# EAGLE library part BATRE_3PCS (library batre_holder)
Batre holder 3pcs, creat by mikroavr.com
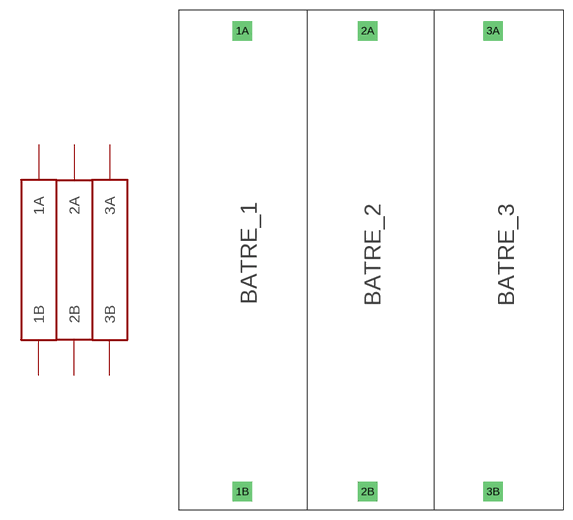
[diagram p0: symbol with the pads of BATRE_3PCS; footprint BATRE_3PCS]

Designator prefix -

## BATRE_3PCS  [BATRE_3PCS]
1A  1A
1B  1B
2A  2A
2B  2B
3A  3A
3B  3B

## Footprint BATRE_3PCS (pad centres in mm)
BATRE HOLDER PCB, BY MIKROAVR.COM
drill 2.032 square: 1A -50.546,15.748; 1B -50.546,-56.134; 2A -30.988,15.748; 2B -30.988,-56.134; 3A -11.43,15.748; 3B -11.43,-56.134